# Altium footprint library logic.PcbLib: 1 footprints
Each footprint in its own frame and in the unit in brackets; x right, y up, seen from the top. Pads: shape width x height; smd on the part's side, far side on the other; paste and mask are expansions set on the pad; w line width, h text height; cw(c..) or ccw(c..) is an arc to the next point about the centre after c.
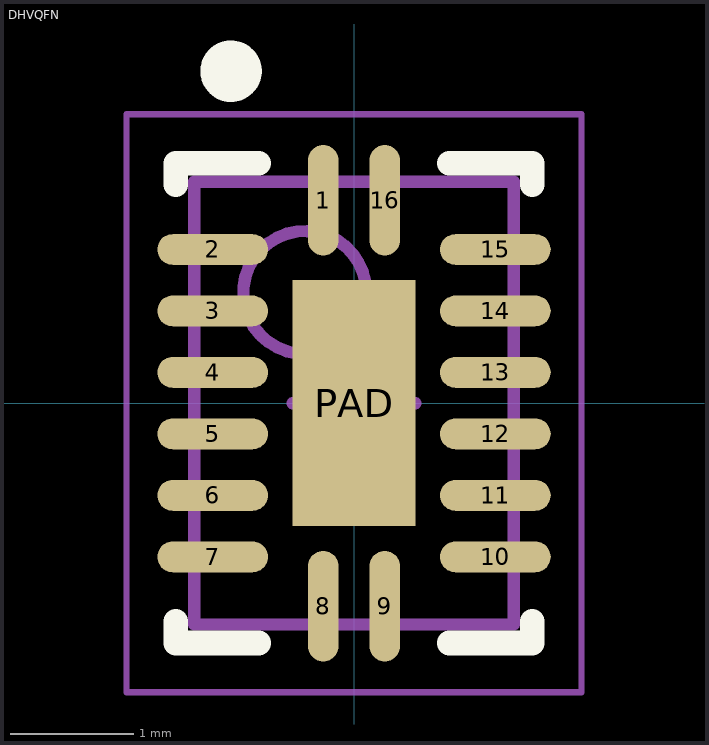
[diagram p0: the footprint, top view; thin cyan lines are the x and y axes]

## DHVQFN [mm] "DHVQFN"
height 1
pads (17):
  oval 0.25x0.9 smd: 1(-0.25,1.65) 8(-0.25,-1.65) 9(0.25,-1.65) 16(0.25,1.65)
  oval 0.9x0.25 smd: 2(-1.15,1.25) 3(-1.15,0.75) 4(-1.15,0.25) 5(-1.15,-0.25) 6(-1.15,-0.75) 7(-1.15,-1.25) 10(1.15,-1.25) 11(1.15,-0.75) 12(1.15,-0.25) 13(1.15,0.25) 14(1.15,0.75) 15(1.15,1.25)
  rect 1x2 smd: PAD(0,0)
Top Overlay:
  circle w0.25: c-1,2.7 r0.125
  lines w0.2: -1.45,-1.775 -1.45,-1.95 -0.775,-1.95 ; -1.45,1.775 -1.45,1.95 -0.775,1.95 ; 0.775,-1.95 1.45,-1.95 1.45,-1.775 ; 0.775,1.95 1.45,1.95 1.45,1.775
Mechanical 13:
  circle w0.1: c-0.4,0.9 r0.5
  lines w0.1: -1.3,-1.8 1.3,-1.8 1.3,1.8 -1.3,1.8 -1.3,-1.8
Mechanical 15:
  lines w0.05: -1.85,-2.35 1.85,-2.35 1.85,2.35 -1.85,2.35 -1.85,-2.35
  lines w0.1: -0.5,0 0.5,0 ; 0,-0.5 0,0.5
3D body: height 1, standoff 0.05, extent -1.3,-1.8 1.3,1.8